# Altium footprint library WR-MM.PcbLib: 120 footprints (part 3 of 8)
Each footprint in its own frame and in the unit in brackets; x right, y up, seen from the top. Pads: shape width x height; smd on the part's side, far side on the other; paste and mask are expansions set on the pad; w line width, h text height; cw(c..) or ccw(c..) is an arc to the next point about the centre after c.
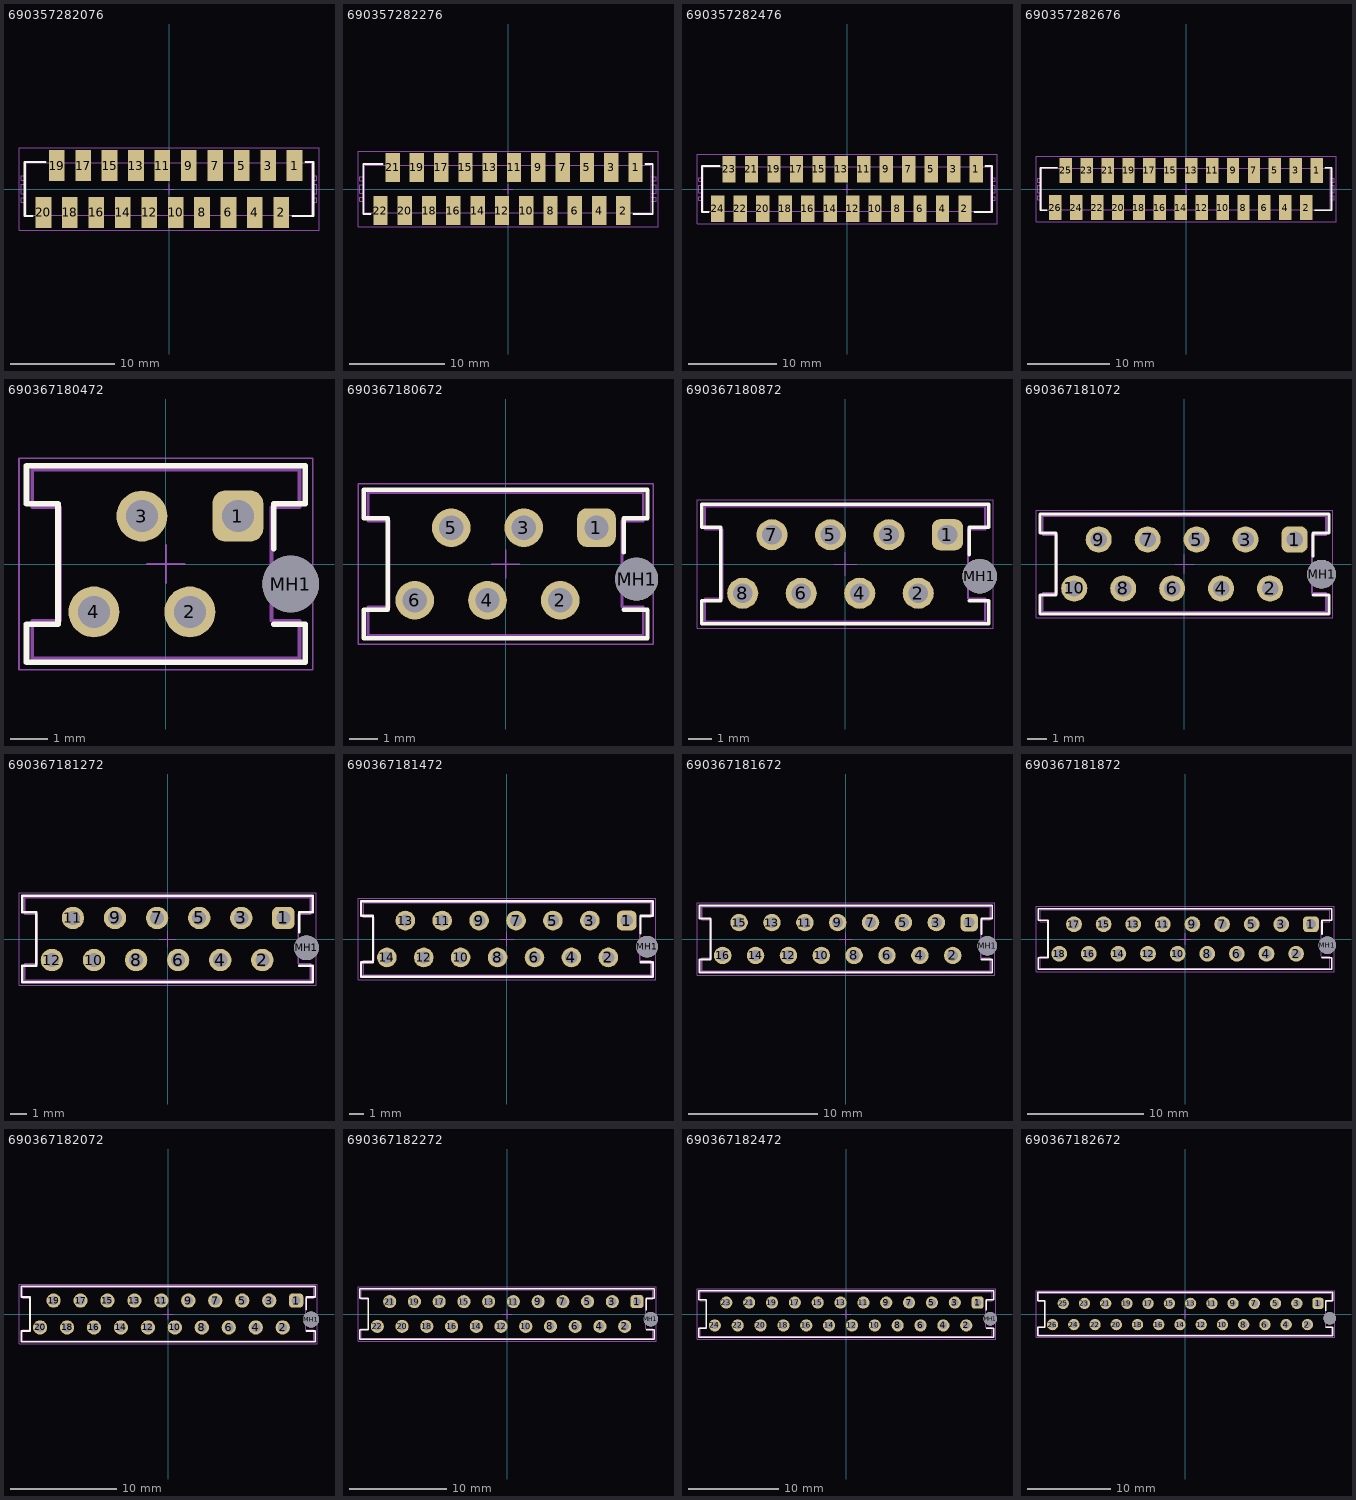
[diagram p2: the footprints below, top view; thin cyan lines are the x and y axes]

## 690357282076 [mm] "MiniModule Connectors, PCB Type, Male, SMT, Vertical, 20p"
height 4.8
pads (20):
  rect 1.5x3 smd: 1(12.065,2.25) 2(10.795,-2.25) 3(9.525,2.25) 4(8.255,-2.25) 5(6.985,2.25) 6(5.715,-2.25) 7(4.445,2.25) 8(3.175,-2.25) 9(1.905,2.25) 10(0.635,-2.25) 11(-0.635,2.25) 12(-1.905,-2.25) 13(-3.175,2.25) 14(-4.445,-2.25) 15(-5.715,2.25) 16(-6.985,-2.25) 17(-8.255,2.25) 18(-9.525,-2.25) 19(-10.795,2.25) 20(-12.065,-2.25)
Top Overlay:
  lines w0.2: -13.11,-2.6 -13.865,-2.6 -13.865,2.6 -11.86,2.6 ; 11.86,-2.6 13.865,-2.6 13.865,2.6 13.11,2.6
Top Designator:
  text ".Designator" at -7.498,-0.5 h1.5
Top Component Outline:
  lines w0.1: -13.715,-1.29 -14.215,-1.29 -14.215,-0.85 -13.715,-0.85 ; -13.715,-0.45 -14.215,-0.45 -14.215,0.45 -13.715,0.45 ; -13.715,0.85 -14.215,0.85 -14.215,1.29 -13.715,1.29 ; -12.315,-2.5 -12.315,-3.25 -11.815,-3.25 -11.815,-2.5 ; -11.045,2.5 -11.045,3.25 -10.545,3.25 -10.545,2.5 ; -9.775,-2.5 -9.775,-3.25 -9.275,-3.25 -9.275,-2.5 ; -8.505,2.5 -8.505,3.25 -8.005,3.25 -8.005,2.5 ; -7.235,-2.5 -7.235,-3.25 -6.735,-3.25 -6.735,-2.5 ; -5.965,2.5 -5.965,3.25 -5.465,3.25 -5.465,2.5 ; -4.695,-2.5 -4.695,-3.25 -4.195,-3.25 -4.195,-2.5 ; -3.425,2.5 -3.425,3.25 -2.925,3.25 -2.925,2.5 ; -2.155,-2.5 -2.155,-3.25 -1.655,-3.25 -1.655,-2.5 ; -0.885,2.5 -0.885,3.25 -0.385,3.25 -0.385,2.5 ; 0.385,-2.5 0.385,-3.25 0.885,-3.25 0.885,-2.5 ; 1.655,2.5 1.655,3.25 2.155,3.25 2.155,2.5 ; 2.925,-2.5 2.925,-3.25 3.425,-3.25 3.425,-2.5 ; 4.195,2.5 4.195,3.25 4.695,3.25 4.695,2.5 ; 5.465,-2.5 5.465,-3.25 5.965,-3.25 5.965,-2.5 ; 6.735,2.5 6.735,3.25 7.235,3.25 7.235,2.5 ; 8.005,-2.5 8.005,-3.25 8.505,-3.25 8.505,-2.5 ; 9.275,2.5 9.275,3.25 9.775,3.25 9.775,2.5 ; 10.545,-2.5 10.545,-3.25 11.045,-3.25 11.045,-2.5 ; 11.815,2.5 11.815,3.25 12.315,3.25 12.315,2.5 ; 13.715,-1.29 14.215,-1.29 14.215,-0.85 13.715,-0.85 ; 13.715,-0.45 14.215,-0.45 14.215,0.45 13.715,0.45 ; 13.715,0.85 14.215,0.85 14.215,1.29 13.715,1.29 ; -13.715,-2.5 13.715,-2.5 ; -13.715,-2.5 13.715,-2.5 ; -13.715,-2.5 -13.715,2.5 13.715,2.5 13.715,-2.5
Top 3D Body:
  lines w0.1: -13.715,-1.29 -14.215,-1.29 -14.215,-0.85 -13.715,-0.85 ; -13.715,-0.45 -14.215,-0.45 -14.215,0.45 -13.715,0.45 ; -13.715,0.85 -14.215,0.85 -14.215,1.29 -13.715,1.29 ; -12.315,-2.5 -12.315,-3.25 -11.815,-3.25 -11.815,-2.5 ; -11.045,2.5 -11.045,3.25 -10.545,3.25 -10.545,2.5 ; -9.775,-2.5 -9.775,-3.25 -9.275,-3.25 -9.275,-2.5 ; -8.505,2.5 -8.505,3.25 -8.005,3.25 -8.005,2.5 ; -7.235,-2.5 -7.235,-3.25 -6.735,-3.25 -6.735,-2.5 ; -5.965,2.5 -5.965,3.25 -5.465,3.25 -5.465,2.5 ; -4.695,-2.5 -4.695,-3.25 -4.195,-3.25 -4.195,-2.5 ; -3.425,2.5 -3.425,3.25 -2.925,3.25 -2.925,2.5 ; -2.155,-2.5 -2.155,-3.25 -1.655,-3.25 -1.655,-2.5 ; -0.885,2.5 -0.885,3.25 -0.385,3.25 -0.385,2.5 ; 0.385,-2.5 0.385,-3.25 0.885,-3.25 0.885,-2.5 ; 1.655,2.5 1.655,3.25 2.155,3.25 2.155,2.5 ; 2.925,-2.5 2.925,-3.25 3.425,-3.25 3.425,-2.5 ; 4.195,2.5 4.195,3.25 4.695,3.25 4.695,2.5 ; 5.465,-2.5 5.465,-3.25 5.965,-3.25 5.965,-2.5 ; 6.735,2.5 6.735,3.25 7.235,3.25 7.235,2.5 ; 8.005,-2.5 8.005,-3.25 8.505,-3.25 8.505,-2.5 ; 9.275,2.5 9.275,3.25 9.775,3.25 9.775,2.5 ; 10.545,-2.5 10.545,-3.25 11.045,-3.25 11.045,-2.5 ; 11.815,2.5 11.815,3.25 12.315,3.25 12.315,2.5 ; 13.715,-1.29 14.215,-1.29 14.215,-0.85 13.715,-0.85 ; 13.715,-0.45 14.215,-0.45 14.215,0.45 13.715,0.45 ; 13.715,0.85 14.215,0.85 14.215,1.29 13.715,1.29 ; -13.715,-2.5 -13.715,2.5 13.715,2.5 13.715,-2.5 ; -13.715,-2.5 13.715,-2.5 ; -13.715,-2.5 13.715,-2.5
Top Courtyard:
  lines w0.05: -0.5,0 0.5,0 ; 0,-0.5 0,0.5 ; -14.415,-3.95 14.415,-3.95 14.415,3.95 -14.415,3.95 -14.415,-3.95
3D body "690357282076.stp": height 5.16, standoff 0.01, extent -14.215,-3.25 14.215,3.25

## 690357282276 [mm] "MiniModule Connectors, PCB Type, Male, SMT, Vertical, 22p"
height 4.8
pads (22):
  rect 1.5x3 smd: 1(13.335,2.25) 2(12.065,-2.25) 3(10.795,2.25) 4(9.525,-2.25) 5(8.255,2.25) 6(6.985,-2.25) 7(5.715,2.25) 8(4.445,-2.25) 9(3.175,2.25) 10(1.905,-2.25) 11(0.635,2.25) 12(-0.635,-2.25) 13(-1.905,2.25) 14(-3.175,-2.25) 15(-4.445,2.25) 16(-5.715,-2.25) 17(-6.985,2.25) 18(-8.255,-2.25) 19(-9.525,2.25) 20(-10.795,-2.25) 21(-12.065,2.25) 22(-13.335,-2.25)
Top Overlay:
  lines w0.2: -14.38,-2.6 -15.135,-2.6 -15.135,2.6 -13.13,2.6 ; 13.13,-2.6 15.135,-2.6 15.135,2.6 14.38,2.6
Top Designator:
  text ".Designator" at -7.498,-0.5 h1.5
Top Component Outline:
  lines w0.1: -14.985,-1.29 -15.485,-1.29 -15.485,-0.85 -14.985,-0.85 ; -14.985,-0.45 -15.485,-0.45 -15.485,0.45 -14.985,0.45 ; -14.985,0.85 -15.485,0.85 -15.485,1.29 -14.985,1.29 ; -13.585,-2.5 -13.585,-3.25 -13.085,-3.25 -13.085,-2.5 ; -12.315,2.5 -12.315,3.25 -11.815,3.25 -11.815,2.5 ; -11.045,-2.5 -11.045,-3.25 -10.545,-3.25 -10.545,-2.5 ; -9.775,2.5 -9.775,3.25 -9.275,3.25 -9.275,2.5 ; -8.505,-2.5 -8.505,-3.25 -8.005,-3.25 -8.005,-2.5 ; -7.235,2.5 -7.235,3.25 -6.735,3.25 -6.735,2.5 ; -5.965,-2.5 -5.965,-3.25 -5.465,-3.25 -5.465,-2.5 ; -4.695,2.5 -4.695,3.25 -4.195,3.25 -4.195,2.5 ; -3.425,-2.5 -3.425,-3.25 -2.925,-3.25 -2.925,-2.5 ; -2.155,2.5 -2.155,3.25 -1.655,3.25 -1.655,2.5 ; -0.885,-2.5 -0.885,-3.25 -0.385,-3.25 -0.385,-2.5 ; 0.385,2.5 0.385,3.25 0.885,3.25 0.885,2.5 ; 1.655,-2.5 1.655,-3.25 2.155,-3.25 2.155,-2.5 ; 2.925,2.5 2.925,3.25 3.425,3.25 3.425,2.5 ; 4.195,-2.5 4.195,-3.25 4.695,-3.25 4.695,-2.5 ; 5.465,2.5 5.465,3.25 5.965,3.25 5.965,2.5 ; 6.735,-2.5 6.735,-3.25 7.235,-3.25 7.235,-2.5 ; 8.005,2.5 8.005,3.25 8.505,3.25 8.505,2.5 ; 9.275,-2.5 9.275,-3.25 9.775,-3.25 9.775,-2.5 ; 10.545,2.5 10.545,3.25 11.045,3.25 11.045,2.5 ; 11.815,-2.5 11.815,-3.25 12.315,-3.25 12.315,-2.5 ; 13.085,2.5 13.085,3.25 13.585,3.25 13.585,2.5 ; 14.985,-1.29 15.485,-1.29 15.485,-0.85 14.985,-0.85 ; 14.985,-0.45 15.485,-0.45 15.485,0.45 14.985,0.45 ; 14.985,0.85 15.485,0.85 15.485,1.29 14.985,1.29 ; -14.985,-2.5 -14.985,2.5 14.985,2.5 14.985,-2.5 ; -14.985,-2.5 14.985,-2.5 ; -14.985,-2.5 14.985,-2.5
Top 3D Body:
  lines w0.1: -14.985,-1.29 -15.485,-1.29 -15.485,-0.85 -14.985,-0.85 ; -14.985,-0.45 -15.485,-0.45 -15.485,0.45 -14.985,0.45 ; -14.985,0.85 -15.485,0.85 -15.485,1.29 -14.985,1.29 ; -13.585,-2.5 -13.585,-3.25 -13.085,-3.25 -13.085,-2.5 ; -12.315,2.5 -12.315,3.25 -11.815,3.25 -11.815,2.5 ; -11.045,-2.5 -11.045,-3.25 -10.545,-3.25 -10.545,-2.5 ; -9.775,2.5 -9.775,3.25 -9.275,3.25 -9.275,2.5 ; -8.505,-2.5 -8.505,-3.25 -8.005,-3.25 -8.005,-2.5 ; -7.235,2.5 -7.235,3.25 -6.735,3.25 -6.735,2.5 ; -5.965,-2.5 -5.965,-3.25 -5.465,-3.25 -5.465,-2.5 ; -4.695,2.5 -4.695,3.25 -4.195,3.25 -4.195,2.5 ; -3.425,-2.5 -3.425,-3.25 -2.925,-3.25 -2.925,-2.5 ; -2.155,2.5 -2.155,3.25 -1.655,3.25 -1.655,2.5 ; -0.885,-2.5 -0.885,-3.25 -0.385,-3.25 -0.385,-2.5 ; 0.385,2.5 0.385,3.25 0.885,3.25 0.885,2.5 ; 1.655,-2.5 1.655,-3.25 2.155,-3.25 2.155,-2.5 ; 2.925,2.5 2.925,3.25 3.425,3.25 3.425,2.5 ; 4.195,-2.5 4.195,-3.25 4.695,-3.25 4.695,-2.5 ; 5.465,2.5 5.465,3.25 5.965,3.25 5.965,2.5 ; 6.735,-2.5 6.735,-3.25 7.235,-3.25 7.235,-2.5 ; 8.005,2.5 8.005,3.25 8.505,3.25 8.505,2.5 ; 9.275,-2.5 9.275,-3.25 9.775,-3.25 9.775,-2.5 ; 10.545,2.5 10.545,3.25 11.045,3.25 11.045,2.5 ; 11.815,-2.5 11.815,-3.25 12.315,-3.25 12.315,-2.5 ; 13.085,2.5 13.085,3.25 13.585,3.25 13.585,2.5 ; 14.985,-1.29 15.485,-1.29 15.485,-0.85 14.985,-0.85 ; 14.985,-0.45 15.485,-0.45 15.485,0.45 14.985,0.45 ; 14.985,0.85 15.485,0.85 15.485,1.29 14.985,1.29 ; -14.985,-2.5 14.985,-2.5 ; -14.985,-2.5 14.985,-2.5 ; -14.985,-2.5 -14.985,2.5 14.985,2.5 14.985,-2.5
Top Courtyard:
  lines w0.05: -0.5,0 0.5,0 ; 0,-0.5 0,0.5 ; -15.685,-3.95 -15.685,3.95 15.685,3.95 15.685,-3.95 -15.685,-3.95
3D body "690357282276.stp": height 5.16, standoff 0.01, extent -15.485,-3.25 15.485,3.25

## 690357282476 [mm] "MiniModule Connectors, PCB Type, Male, SMT, Vertical, 24p"
height 4.8
pads (24):
  rect 1.5x3 smd: 1(14.605,2.25) 2(13.335,-2.25) 3(12.065,2.25) 4(10.795,-2.25) 5(9.525,2.25) 6(8.255,-2.25) 7(6.985,2.25) 8(5.715,-2.25) 9(4.445,2.25) 10(3.175,-2.25) 11(1.905,2.25) 12(0.635,-2.25) 13(-0.635,2.25) 14(-1.905,-2.25) 15(-3.175,2.25) 16(-4.445,-2.25) 17(-5.715,2.25) 18(-6.985,-2.25) 19(-8.255,2.25) 20(-9.525,-2.25) 21(-10.795,2.25) 22(-12.065,-2.25) 23(-13.335,2.25) 24(-14.605,-2.25)
Top Overlay:
  lines w0.2: -15.65,-2.6 -16.405,-2.6 -16.405,2.6 -14.4,2.6 ; 14.4,-2.6 16.405,-2.6 16.405,2.6 15.65,2.6
Top Designator:
  text ".Designator" at -7.498,-0.5 h1.5
Top Component Outline:
  lines w0.1: -16.255,-1.29 -16.755,-1.29 -16.755,-0.85 -16.255,-0.85 ; -16.255,-0.45 -16.755,-0.45 -16.755,0.45 -16.255,0.45 ; -16.255,0.85 -16.755,0.85 -16.755,1.29 -16.255,1.29 ; -14.855,-2.5 -14.855,-3.25 -14.355,-3.25 -14.355,-2.5 ; -13.585,2.5 -13.585,3.25 -13.085,3.25 -13.085,2.5 ; -12.315,-2.5 -12.315,-3.25 -11.815,-3.25 -11.815,-2.5 ; -11.045,2.5 -11.045,3.25 -10.545,3.25 -10.545,2.5 ; -9.775,-2.5 -9.775,-3.25 -9.275,-3.25 -9.275,-2.5 ; -8.505,2.5 -8.505,3.25 -8.005,3.25 -8.005,2.5 ; -7.235,-2.5 -7.235,-3.25 -6.735,-3.25 -6.735,-2.5 ; -5.965,2.5 -5.965,3.25 -5.465,3.25 -5.465,2.5 ; -4.695,-2.5 -4.695,-3.25 -4.195,-3.25 -4.195,-2.5 ; -3.425,2.5 -3.425,3.25 -2.925,3.25 -2.925,2.5 ; -2.155,-2.5 -2.155,-3.25 -1.655,-3.25 -1.655,-2.5 ; -0.885,2.5 -0.885,3.25 -0.385,3.25 -0.385,2.5 ; 0.385,-2.5 0.385,-3.25 0.885,-3.25 0.885,-2.5 ; 1.655,2.5 1.655,3.25 2.155,3.25 2.155,2.5 ; 2.925,-2.5 2.925,-3.25 3.425,-3.25 3.425,-2.5 ; 4.195,2.5 4.195,3.25 4.695,3.25 4.695,2.5 ; 5.465,-2.5 5.465,-3.25 5.965,-3.25 5.965,-2.5 ; 6.735,2.5 6.735,3.25 7.235,3.25 7.235,2.5 ; 8.005,-2.5 8.005,-3.25 8.505,-3.25 8.505,-2.5 ; 9.275,2.5 9.275,3.25 9.775,3.25 9.775,2.5 ; 10.545,-2.5 10.545,-3.25 11.045,-3.25 11.045,-2.5 ; 11.815,2.5 11.815,3.25 12.315,3.25 12.315,2.5 ; 13.085,-2.5 13.085,-3.25 13.585,-3.25 13.585,-2.5 ; 14.355,2.5 14.355,3.25 14.855,3.25 14.855,2.5 ; 16.255,-1.29 16.755,-1.29 16.755,-0.85 16.255,-0.85 ; 16.255,-0.45 16.755,-0.45 16.755,0.45 16.255,0.45 ; 16.255,0.85 16.755,0.85 16.755,1.29 16.255,1.29 ; -16.255,-2.5 -16.255,2.5 16.255,2.5 16.255,-2.5 ; -16.255,-2.5 16.255,-2.5 ; -16.255,-2.5 16.255,-2.5
Top 3D Body:
  lines w0.1: -16.255,-1.29 -16.755,-1.29 -16.755,-0.85 -16.255,-0.85 ; -16.255,-0.45 -16.755,-0.45 -16.755,0.45 -16.255,0.45 ; -16.255,0.85 -16.755,0.85 -16.755,1.29 -16.255,1.29 ; -14.855,-2.5 -14.855,-3.25 -14.355,-3.25 -14.355,-2.5 ; -13.585,2.5 -13.585,3.25 -13.085,3.25 -13.085,2.5 ; -12.315,-2.5 -12.315,-3.25 -11.815,-3.25 -11.815,-2.5 ; -11.045,2.5 -11.045,3.25 -10.545,3.25 -10.545,2.5 ; -9.775,-2.5 -9.775,-3.25 -9.275,-3.25 -9.275,-2.5 ; -8.505,2.5 -8.505,3.25 -8.005,3.25 -8.005,2.5 ; -7.235,-2.5 -7.235,-3.25 -6.735,-3.25 -6.735,-2.5 ; -5.965,2.5 -5.965,3.25 -5.465,3.25 -5.465,2.5 ; -4.695,-2.5 -4.695,-3.25 -4.195,-3.25 -4.195,-2.5 ; -3.425,2.5 -3.425,3.25 -2.925,3.25 -2.925,2.5 ; -2.155,-2.5 -2.155,-3.25 -1.655,-3.25 -1.655,-2.5 ; -0.885,2.5 -0.885,3.25 -0.385,3.25 -0.385,2.5 ; 0.385,-2.5 0.385,-3.25 0.885,-3.25 0.885,-2.5 ; 1.655,2.5 1.655,3.25 2.155,3.25 2.155,2.5 ; 2.925,-2.5 2.925,-3.25 3.425,-3.25 3.425,-2.5 ; 4.195,2.5 4.195,3.25 4.695,3.25 4.695,2.5 ; 5.465,-2.5 5.465,-3.25 5.965,-3.25 5.965,-2.5 ; 6.735,2.5 6.735,3.25 7.235,3.25 7.235,2.5 ; 8.005,-2.5 8.005,-3.25 8.505,-3.25 8.505,-2.5 ; 9.275,2.5 9.275,3.25 9.775,3.25 9.775,2.5 ; 10.545,-2.5 10.545,-3.25 11.045,-3.25 11.045,-2.5 ; 11.815,2.5 11.815,3.25 12.315,3.25 12.315,2.5 ; 13.085,-2.5 13.085,-3.25 13.585,-3.25 13.585,-2.5 ; 14.355,2.5 14.355,3.25 14.855,3.25 14.855,2.5 ; 16.255,-1.29 16.755,-1.29 16.755,-0.85 16.255,-0.85 ; 16.255,-0.45 16.755,-0.45 16.755,0.45 16.255,0.45 ; 16.255,0.85 16.755,0.85 16.755,1.29 16.255,1.29 ; -16.255,-2.5 16.255,-2.5 ; -16.255,-2.5 16.255,-2.5 ; -16.255,-2.5 -16.255,2.5 16.255,2.5 16.255,-2.5
Top Courtyard:
  lines w0.05: -0.5,0 0.5,0 ; 0,-0.5 0,0.5 ; -16.955,-3.95 -16.955,3.95 16.955,3.95 16.955,-3.95 -16.955,-3.95
3D body "690357282476.stp": height 5.16, standoff 0.01, extent -16.755,-3.25 16.755,3.25

## 690357282676 [mm] "MiniModule Connectors, PCB Type, Male, SMT, Vertical, 26p"
height 4.8
pads (26):
  rect 1.5x3 smd: 1(15.875,2.25) 2(14.605,-2.25) 3(13.335,2.25) 4(12.065,-2.25) 5(10.795,2.25) 6(9.525,-2.25) 7(8.255,2.25) 8(6.985,-2.25) 9(5.715,2.25) 10(4.445,-2.25) 11(3.175,2.25) 12(1.905,-2.25) 13(0.635,2.25) 14(-0.635,-2.25) 15(-1.905,2.25) 16(-3.175,-2.25) 17(-4.445,2.25) 18(-5.715,-2.25) 19(-6.985,2.25) 20(-8.255,-2.25) 21(-9.525,2.25) 22(-10.795,-2.25) 23(-12.065,2.25) 24(-13.335,-2.25) 25(-14.605,2.25) 26(-15.875,-2.25)
Top Overlay:
  lines w0.2: -16.92,-2.6 -17.675,-2.6 -17.675,2.6 -15.67,2.6 ; 15.67,-2.6 17.675,-2.6 17.675,2.6 16.92,2.6
Top Designator:
  text ".Designator" at -7.498,-0.5 h1.5
Top Component Outline:
  lines w0.1: -17.525,-1.29 -18.025,-1.29 -18.025,-0.85 -17.525,-0.85 ; -17.525,-0.45 -18.025,-0.45 -18.025,0.45 -17.525,0.45 ; -17.525,0.85 -18.025,0.85 -18.025,1.29 -17.525,1.29 ; -16.125,-2.5 -16.125,-3.25 -15.625,-3.25 -15.625,-2.5 ; -14.855,2.5 -14.855,3.25 -14.355,3.25 -14.355,2.5 ; -13.585,-2.5 -13.585,-3.25 -13.085,-3.25 -13.085,-2.5 ; -12.315,2.5 -12.315,3.25 -11.815,3.25 -11.815,2.5 ; -11.045,-2.5 -11.045,-3.25 -10.545,-3.25 -10.545,-2.5 ; -9.775,2.5 -9.775,3.25 -9.275,3.25 -9.275,2.5 ; -8.505,-2.5 -8.505,-3.25 -8.005,-3.25 -8.005,-2.5 ; -7.235,2.5 -7.235,3.25 -6.735,3.25 -6.735,2.5 ; -5.965,-2.5 -5.965,-3.25 -5.465,-3.25 -5.465,-2.5 ; -4.695,2.5 -4.695,3.25 -4.195,3.25 -4.195,2.5 ; -3.425,-2.5 -3.425,-3.25 -2.925,-3.25 -2.925,-2.5 ; -2.155,2.5 -2.155,3.25 -1.655,3.25 -1.655,2.5 ; -0.885,-2.5 -0.885,-3.25 -0.385,-3.25 -0.385,-2.5 ; 0.385,2.5 0.385,3.25 0.885,3.25 0.885,2.5 ; 1.655,-2.5 1.655,-3.25 2.155,-3.25 2.155,-2.5 ; 2.925,2.5 2.925,3.25 3.425,3.25 3.425,2.5 ; 4.195,-2.5 4.195,-3.25 4.695,-3.25 4.695,-2.5 ; 5.465,2.5 5.465,3.25 5.965,3.25 5.965,2.5 ; 6.735,-2.5 6.735,-3.25 7.235,-3.25 7.235,-2.5 ; 8.005,2.5 8.005,3.25 8.505,3.25 8.505,2.5 ; 9.275,-2.5 9.275,-3.25 9.775,-3.25 9.775,-2.5 ; 10.545,2.5 10.545,3.25 11.045,3.25 11.045,2.5 ; 11.815,-2.5 11.815,-3.25 12.315,-3.25 12.315,-2.5 ; 13.085,2.5 13.085,3.25 13.585,3.25 13.585,2.5 ; 14.355,-2.5 14.355,-3.25 14.855,-3.25 14.855,-2.5 ; 15.625,2.5 15.625,3.25 16.125,3.25 16.125,2.5 ; 17.525,-1.29 18.025,-1.29 18.025,-0.85 17.525,-0.85 ; 17.525,-0.45 18.025,-0.45 18.025,0.45 17.525,0.45 ; 17.525,0.85 18.025,0.85 18.025,1.29 17.525,1.29 ; -17.525,-2.5 -17.525,2.5 17.525,2.5 17.525,-2.5 ; -17.525,-2.5 17.525,-2.5 ; -17.525,-2.5 17.525,-2.5
Top 3D Body:
  lines w0.1: -17.525,-1.29 -18.025,-1.29 -18.025,-0.85 -17.525,-0.85 ; -17.525,-0.45 -18.025,-0.45 -18.025,0.45 -17.525,0.45 ; -17.525,0.85 -18.025,0.85 -18.025,1.29 -17.525,1.29 ; -16.125,-2.5 -16.125,-3.25 -15.625,-3.25 -15.625,-2.5 ; -14.855,2.5 -14.855,3.25 -14.355,3.25 -14.355,2.5 ; -13.585,-2.5 -13.585,-3.25 -13.085,-3.25 -13.085,-2.5 ; -12.315,2.5 -12.315,3.25 -11.815,3.25 -11.815,2.5 ; -11.045,-2.5 -11.045,-3.25 -10.545,-3.25 -10.545,-2.5 ; -9.775,2.5 -9.775,3.25 -9.275,3.25 -9.275,2.5 ; -8.505,-2.5 -8.505,-3.25 -8.005,-3.25 -8.005,-2.5 ; -7.235,2.5 -7.235,3.25 -6.735,3.25 -6.735,2.5 ; -5.965,-2.5 -5.965,-3.25 -5.465,-3.25 -5.465,-2.5 ; -4.695,2.5 -4.695,3.25 -4.195,3.25 -4.195,2.5 ; -3.425,-2.5 -3.425,-3.25 -2.925,-3.25 -2.925,-2.5 ; -2.155,2.5 -2.155,3.25 -1.655,3.25 -1.655,2.5 ; -0.885,-2.5 -0.885,-3.25 -0.385,-3.25 -0.385,-2.5 ; 0.385,2.5 0.385,3.25 0.885,3.25 0.885,2.5 ; 1.655,-2.5 1.655,-3.25 2.155,-3.25 2.155,-2.5 ; 2.925,2.5 2.925,3.25 3.425,3.25 3.425,2.5 ; 4.195,-2.5 4.195,-3.25 4.695,-3.25 4.695,-2.5 ; 5.465,2.5 5.465,3.25 5.965,3.25 5.965,2.5 ; 6.735,-2.5 6.735,-3.25 7.235,-3.25 7.235,-2.5 ; 8.005,2.5 8.005,3.25 8.505,3.25 8.505,2.5 ; 9.275,-2.5 9.275,-3.25 9.775,-3.25 9.775,-2.5 ; 10.545,2.5 10.545,3.25 11.045,3.25 11.045,2.5 ; 11.815,-2.5 11.815,-3.25 12.315,-3.25 12.315,-2.5 ; 13.085,2.5 13.085,3.25 13.585,3.25 13.585,2.5 ; 14.355,-2.5 14.355,-3.25 14.855,-3.25 14.855,-2.5 ; 15.625,2.5 15.625,3.25 16.125,3.25 16.125,2.5 ; 17.525,-1.29 18.025,-1.29 18.025,-0.85 17.525,-0.85 ; 17.525,-0.45 18.025,-0.45 18.025,0.45 17.525,0.45 ; 17.525,0.85 18.025,0.85 18.025,1.29 17.525,1.29 ; -17.525,-2.5 17.525,-2.5 ; -17.525,-2.5 17.525,-2.5 ; -17.525,-2.5 -17.525,2.5 17.525,2.5 17.525,-2.5
Top Courtyard:
  lines w0.05: -0.5,0 0.5,0 ; 0,-0.5 0,0.5 ; -18.225,-3.95 -18.225,3.95 18.225,3.95 18.225,-3.95 -18.225,-3.95
3D body "690357282676.stp": height 5.16, standoff 0.01, extent -18.025,-3.25 18.025,3.25

## 690367180472 [mm] "MiniModule Connectors, PCB Type, Female, THT, Vertical, 4p"
height 4.4
pads (5):
  rrect50% 1.35x1.35 hole 0.85: 1(1.905,1.27)
  round 1.35 hole 0.85: 2(0.635,-1.27) 3(-0.635,1.27) 4(-1.905,-1.27)
  round 1.5 hole 1.5 unplated: MH1(3.305,-0.53)
Top Overlay:
  lines w0.15: 2.855,-1.6 3.69,-1.6 3.69,-2.6 -3.69,-2.6 -3.69,-1.6 -2.855,-1.6 -2.855,1.6 -3.69,1.6 -3.69,2.6 3.69,2.6 3.69,1.6 2.855,1.6 2.855,0.4
Top Designator:
  text ".Designator" at -7.498,-0.5 h1.5
Top Component Outline:
  lines w0.1: -3.54,-2.5 -3.54,-1.5 -2.8,-1.5 -2.8,1.5 -3.54,1.5 -3.54,2.5 3.54,2.5 3.54,1.5 2.8,1.5 2.8,-1.5 3.54,-1.5 3.54,-2.5 -3.54,-2.5
Top 3D Body:
  lines w0.1: -3.54,-2.5 3.54,-2.5 3.54,-1.5 2.8,-1.5 2.8,1.5 3.54,1.5 3.54,2.5 -3.54,2.5 -3.54,1.5 -2.8,1.5 -2.8,-1.5 -3.54,-1.5 -3.54,-2.5
Top Courtyard:
  lines w0.05: -0.5,0 0.5,0 ; 0,-0.5 0,0.5 ; -3.89,-2.8 -3.89,2.8 3.89,2.8 3.89,-2.8 -3.89,-2.8
3D body "690367180472.stp": height 4.25, standoff -2.85, extent -3.54,-2.5 3.54,2.5

## 690367180672 [mm] "MiniModule Connectors, PCB Type, Female, THT, Vertical, 6p"
height 4.4
pads (7):
  rrect50% 1.35x1.35 hole 0.85: 1(3.175,1.27)
  round 1.35 hole 0.85: 2(1.905,-1.27) 3(0.635,1.27) 4(-0.635,-1.27) 5(-1.905,1.27) 6(-3.175,-1.27)
  round 1.5 hole 1.5 unplated: MH1(4.575,-0.53)
Top Overlay:
  lines w0.15: 4.125,-1.6 4.96,-1.6 4.96,-2.6 -4.96,-2.6 -4.96,-1.6 -4.125,-1.6 -4.125,1.6 -4.96,1.6 -4.96,2.6 4.96,2.6 4.96,1.6 4.125,1.6 4.125,0.4
Top Designator:
  text ".Designator" at -7.498,-0.5 h1.5
Top Component Outline:
  lines w0.1: -4.81,-2.5 4.81,-2.5 4.81,-1.5 4.07,-1.5 4.07,1.5 4.81,1.5 4.81,2.5 -4.81,2.5 -4.81,1.5 -4.07,1.5 -4.07,-1.5 -4.81,-1.5 -4.81,-2.5
Top 3D Body:
  lines w0.1: -4.81,-2.5 -4.81,-1.5 -4.07,-1.5 -4.07,1.5 -4.81,1.5 -4.81,2.5 4.81,2.5 4.81,1.5 4.07,1.5 4.07,-1.5 4.81,-1.5 4.81,-2.5 -4.81,-2.5
Top Courtyard:
  lines w0.05: -0.5,0 0.5,0 ; 0,-0.5 0,0.5 ; -5.16,-2.8 5.16,-2.8 5.16,2.8 -5.16,2.8 -5.16,-2.8
3D body "690367180672.stp": height 4.25, standoff -2.85, extent -4.81,-2.5 4.81,2.5

## 690367180872 [mm] "MiniModule Connectors, PCB Type, Female, THT, Vertical, 8p"
height 4.4
pads (9):
  rrect50% 1.35x1.35 hole 0.85: 1(4.445,1.27)
  round 1.35 hole 0.85: 2(3.175,-1.27) 3(1.905,1.27) 4(0.635,-1.27) 5(-0.635,1.27) 6(-1.905,-1.27) 7(-3.175,1.27) 8(-4.445,-1.27)
  round 1.5 hole 1.5 unplated: MH1(5.845,-0.53)
Top Overlay:
  lines w0.15: 5.395,-1.6 6.23,-1.6 6.23,-2.6 -6.23,-2.6 -6.23,-1.6 -5.395,-1.6 -5.395,1.6 -6.23,1.6 -6.23,2.6 6.23,2.6 6.23,1.6 5.395,1.6 5.395,0.4
Top Designator:
  text ".Designator" at -7.498,-0.5 h1.5
Top Component Outline:
  lines w0.1: -6.08,-2.5 6.08,-2.5 6.08,-1.5 5.34,-1.5 5.34,1.5 6.08,1.5 6.08,2.5 -6.08,2.5 -6.08,1.5 -5.34,1.5 -5.34,-1.5 -6.08,-1.5 -6.08,-2.5
Top 3D Body:
  lines w0.1: -6.08,-2.5 -6.08,-1.5 -5.34,-1.5 -5.34,1.5 -6.08,1.5 -6.08,2.5 6.08,2.5 6.08,1.5 5.34,1.5 5.34,-1.5 6.08,-1.5 6.08,-2.5 -6.08,-2.5
Top Courtyard:
  lines w0.05: -0.5,0 0.5,0 ; 0,-0.5 0,0.5 ; -6.43,-2.8 -6.43,2.8 6.43,2.8 6.43,-2.8 -6.43,-2.8
3D body "690367180872.stp": height 4.25, standoff -2.85, extent -6.08,-2.5 6.08,2.5

## 690367181072 [mm] "MiniModule Connectors, PCB Type, Female, THT, Vertical, 10p"
height 4.4
pads (11):
  rrect50% 1.35x1.35 hole 0.85: 1(5.715,1.27)
  round 1.35 hole 0.85: 2(4.445,-1.27) 3(3.175,1.27) 4(1.905,-1.27) 5(0.635,1.27) 6(-0.635,-1.27) 7(-1.905,1.27) 8(-3.175,-1.27) 9(-4.445,1.27) 10(-5.715,-1.27)
  round 1.5 hole 1.5 unplated: MH1(7.115,-0.53)
Top Overlay:
  lines w0.15: 6.665,-1.6 7.5,-1.6 7.5,-2.6 -7.5,-2.6 -7.5,-1.6 -6.665,-1.6 -6.665,1.6 -7.5,1.6 -7.5,2.6 7.5,2.6 7.5,1.6 6.665,1.6 6.665,0.4
Top Designator:
  text ".Designator" at -7.498,-0.5 h1.5
Top Component Outline:
  lines w0.1: -7.35,-2.5 7.35,-2.5 7.35,-1.5 6.61,-1.5 6.61,1.5 7.35,1.5 7.35,2.5 -7.35,2.5 -7.35,1.5 -6.61,1.5 -6.61,-1.5 -7.35,-1.5 -7.35,-2.5
Top 3D Body:
  lines w0.1: -7.35,-2.5 -7.35,-1.5 -6.61,-1.5 -6.61,1.5 -7.35,1.5 -7.35,2.5 7.35,2.5 7.35,1.5 6.61,1.5 6.61,-1.5 7.35,-1.5 7.35,-2.5 -7.35,-2.5
Top Courtyard:
  lines w0.05: -0.5,0 0.5,0 ; 0,-0.5 0,0.5 ; -7.7,-2.8 -7.7,2.8 7.7,2.8 7.7,-2.8 -7.7,-2.8
3D body "690367181072.stp": height 4.25, standoff -2.85, extent -7.352,-2.5 7.352,2.5

## 690367181272 [mm] "MiniModule Connectors, PCB Type, Female, THT, Vertical, 12p"
height 4.4
pads (13):
  rrect50% 1.35x1.35 hole 0.85: 1(6.985,1.27)
  round 1.35 hole 0.85: 2(5.715,-1.27) 3(4.445,1.27) 4(3.175,-1.27) 5(1.905,1.27) 6(0.635,-1.27) 7(-0.635,1.27) 8(-1.905,-1.27) 9(-3.175,1.27) 10(-4.445,-1.27) 11(-5.715,1.27) 12(-6.985,-1.27)
  round 1.5 hole 1.5 unplated: MH1(8.385,-0.53)
Top Overlay:
  lines w0.15: 7.935,-1.6 8.77,-1.6 8.77,-2.6 -8.77,-2.6 -8.77,-1.6 -7.935,-1.6 -7.935,1.6 -8.77,1.6 -8.77,2.6 8.77,2.6 8.77,1.6 7.935,1.6 7.935,0.4
Top Designator:
  text ".Designator" at -7.498,-0.5 h1.5
Top Component Outline:
  lines w0.1: -8.62,-2.5 8.62,-2.5 8.62,-1.5 7.88,-1.5 7.88,1.5 8.62,1.5 8.62,2.5 -8.62,2.5 -8.62,1.5 -7.88,1.5 -7.88,-1.5 -8.62,-1.5 -8.62,-2.5
Top 3D Body:
  lines w0.1: -8.62,-2.5 -8.62,-1.5 -7.88,-1.5 -7.88,1.5 -8.62,1.5 -8.62,2.5 8.62,2.5 8.62,1.5 7.88,1.5 7.88,-1.5 8.62,-1.5 8.62,-2.5 -8.62,-2.5
Top Courtyard:
  lines w0.05: -0.5,0 0.5,0 ; 0,-0.5 0,0.5 ; -8.97,-2.8 -8.97,2.8 8.97,2.8 8.97,-2.8 -8.97,-2.8
3D body "690367181272.stp": height 4.25, standoff -2.85, extent -8.62,-2.5 8.62,2.5

## 690367181472 [mm] "MiniModule Connectors, PCB Type, Female, THT, Vertical, 14p"
height 4.4
pads (15):
  rrect50% 1.35x1.35 hole 0.85: 1(8.255,1.27)
  round 1.35 hole 0.85: 2(6.985,-1.27) 3(5.715,1.27) 4(4.445,-1.27) 5(3.175,1.27) 6(1.905,-1.27) 7(0.635,1.27) 8(-0.635,-1.27) 9(-1.905,1.27) 10(-3.175,-1.27) 11(-4.445,1.27) 12(-5.715,-1.27) 13(-6.985,1.27) 14(-8.255,-1.27)
  round 1.5 hole 1.5 unplated: MH1(9.655,-0.53)
Top Overlay:
  lines w0.15: 9.205,-1.6 10.04,-1.6 10.04,-2.6 -10.04,-2.6 -10.04,-1.6 -9.205,-1.6 -9.205,1.6 -10.04,1.6 -10.04,2.6 10.04,2.6 10.04,1.6 9.205,1.6 9.205,0.4
Top Designator:
  text ".Designator" at -7.498,-0.5 h1.5
Top Component Outline:
  lines w0.1: -9.89,-2.5 -9.89,-1.5 -9.15,-1.5 -9.15,1.5 -9.89,1.5 -9.89,2.5 9.89,2.5 9.89,1.5 9.15,1.5 9.15,-1.5 9.89,-1.5 9.89,-2.5 -9.89,-2.5
Top 3D Body:
  lines w0.1: -9.89,-2.5 9.89,-2.5 9.89,-1.5 9.15,-1.5 9.15,1.5 9.89,1.5 9.89,2.5 -9.89,2.5 -9.89,1.5 -9.15,1.5 -9.15,-1.5 -9.89,-1.5 -9.89,-2.5
Top Courtyard:
  lines w0.05: -0.5,0 0.5,0 ; 0,-0.5 0,0.5 ; -10.24,-2.8 10.24,-2.8 10.24,2.8 -10.24,2.8 -10.24,-2.8
3D body "690367181472.stp": height 4.25, standoff -2.85, extent -9.89,-2.5 9.89,2.5

## 690367181672 [mm] "MiniModule Connectors, PCB Type, Female, THT, Vertical, 16p"
height 4.4
pads (17):
  rrect50% 1.35x1.35 hole 0.85: 1(9.525,1.27)
  round 1.35 hole 0.85: 2(8.255,-1.27) 3(6.985,1.27) 4(5.715,-1.27) 5(4.445,1.27) 6(3.175,-1.27) 7(1.905,1.27) 8(0.635,-1.27) 9(-0.635,1.27) 10(-1.905,-1.27) 11(-3.175,1.27) 12(-4.445,-1.27) 13(-5.715,1.27) 14(-6.985,-1.27) 15(-8.255,1.27) 16(-9.525,-1.27)
  round 1.5 hole 1.5 unplated: MH1(10.925,-0.53)
Top Overlay:
  lines w0.15: 10.475,-1.6 11.31,-1.6 11.31,-2.6 -11.31,-2.6 -11.31,-1.6 -10.475,-1.6 -10.475,1.6 -11.31,1.6 -11.31,2.6 11.31,2.6 11.31,1.6 10.475,1.6 10.475,0.4
Top Designator:
  text ".Designator" at -7.498,-0.5 h1.5
Top Component Outline:
  lines w0.1: -11.16,-2.5 11.16,-2.5 11.16,-1.5 10.42,-1.5 10.42,1.5 11.16,1.5 11.16,2.5 -11.16,2.5 -11.16,1.5 -10.42,1.5 -10.42,-1.5 -11.16,-1.5 -11.16,-2.5
Top 3D Body:
  lines w0.1: -11.16,-2.5 11.16,-2.5 11.16,-1.5 10.42,-1.5 10.42,1.5 11.16,1.5 11.16,2.5 -11.16,2.5 -11.16,1.5 -10.42,1.5 -10.42,-1.5 -11.16,-1.5 -11.16,-2.5
Top Courtyard:
  lines w0.05: -0.5,0 0.5,0 ; 0,-0.5 0,0.5 ; -11.51,-2.8 11.51,-2.8 11.51,2.8 -11.51,2.8 -11.51,-2.8
3D body "690367181672.stp": height 4.25, standoff -2.85, extent -11.16,-2.5 11.16,2.5

## 690367181872 [mm] "MiniModule Connectors, PCB Type, Female, THT, Vertical, 18p"
height 4.4
pads (19):
  rrect50% 1.35x1.35 hole 0.85: 1(10.795,1.27)
  round 1.35 hole 0.85: 2(9.525,-1.27) 3(8.255,1.27) 4(6.985,-1.27) 5(5.715,1.27) 6(4.445,-1.27) 7(3.175,1.27) 8(1.905,-1.27) 9(0.635,1.27) 10(-0.635,-1.27) 11(-1.905,1.27) 12(-3.175,-1.27) 13(-4.445,1.27) 14(-5.715,-1.27) 15(-6.985,1.27) 16(-8.255,-1.27) 17(-9.525,1.27) 18(-10.795,-1.27)
  round 1.5 hole 1.5 unplated: MH1(12.195,-0.53)
Top Overlay:
  lines w0.15: 11.745,-1.6 12.58,-1.6 12.58,-2.6 -12.58,-2.6 -12.58,-1.6 -11.745,-1.6 -11.745,1.6 -12.58,1.6 -12.58,2.6 12.58,2.6 12.58,1.6 11.745,1.6 11.745,0.4
Top Designator:
  text ".Designator" at -7.498,-0.5 h1.5
Top Component Outline:
  lines w0.1: -12.43,-2.5 12.43,-2.5 12.43,-1.5 11.69,-1.5 11.69,1.5 12.43,1.5 12.43,2.5 -12.43,2.5 -12.43,1.5 -11.69,1.5 -11.69,-1.5 -12.43,-1.5 -12.43,-2.5
Top 3D Body:
  lines w0.1: -12.43,-2.5 -12.43,-1.5 -11.69,-1.5 -11.69,1.5 -12.43,1.5 -12.43,2.5 12.43,2.5 12.43,1.5 11.69,1.5 11.69,-1.5 12.43,-1.5 12.43,-2.5 -12.43,-2.5
Top Courtyard:
  lines w0.05: -0.5,0 0.5,0 ; 0,-0.5 0,0.5 ; -12.78,-2.8 -12.78,2.8 12.78,2.8 12.78,-2.8 -12.78,-2.8
3D body "690367181872.stp": height 4.25, standoff -2.85, extent -12.43,-2.5 12.43,2.5

## 690367182072 [mm] "MiniModule Connectors, PCB Type, Female, THT, Vertical, 20p"
height 4.4
pads (21):
  rrect50% 1.35x1.35 hole 0.85: 1(12.065,1.27)
  round 1.35 hole 0.85: 2(10.795,-1.27) 3(9.525,1.27) 4(8.255,-1.27) 5(6.985,1.27) 6(5.715,-1.27) 7(4.445,1.27) 8(3.175,-1.27) 9(1.905,1.27) 10(0.635,-1.27) 11(-0.635,1.27) 12(-1.905,-1.27) 13(-3.175,1.27) 14(-4.445,-1.27) 15(-5.715,1.27) 16(-6.985,-1.27) 17(-8.255,1.27) 18(-9.525,-1.27) 19(-10.795,1.27) 20(-12.065,-1.27)
  round 1.5 hole 1.5 unplated: MH1(13.465,-0.53)
Top Overlay:
  lines w0.15: 13.015,-1.6 13.85,-1.6 13.85,-2.6 -13.85,-2.6 -13.85,-1.6 -13.015,-1.6 -13.015,1.6 -13.85,1.6 -13.85,2.6 13.85,2.6 13.85,1.6 13.015,1.6 13.015,0.4
Top Designator:
  text ".Designator" at -7.498,-0.5 h1.5
Top Component Outline:
  lines w0.1: -13.7,-2.5 13.7,-2.5 13.7,-1.5 12.96,-1.5 12.96,1.5 13.7,1.5 13.7,2.5 -13.7,2.5 -13.7,1.5 -12.96,1.5 -12.96,-1.5 -13.7,-1.5 -13.7,-2.5
Top 3D Body:
  lines w0.1: -13.7,-2.5 -13.7,-1.5 -12.96,-1.5 -12.96,1.5 -13.7,1.5 -13.7,2.5 13.7,2.5 13.7,1.5 12.96,1.5 12.96,-1.5 13.7,-1.5 13.7,-2.5 -13.7,-2.5
Top Courtyard:
  lines w0.05: -0.5,0 0.5,0 ; 0,-0.5 0,0.5 ; -14.05,-2.8 -14.05,2.8 14.05,2.8 14.05,-2.8 -14.05,-2.8
3D body "690367182072.stp": height 4.25, standoff -2.85, extent -13.7,-2.5 13.7,2.5

## 690367182272 [mm] "MiniModule Connectors, PCB Type, Female, THT, Vertical, 22p"
height 4.4
pads (23):
  rrect50% 1.35x1.35 hole 0.85: 1(13.335,1.27)
  round 1.35 hole 0.85: 2(12.065,-1.27) 3(10.795,1.27) 4(9.525,-1.27) 5(8.255,1.27) 6(6.985,-1.27) 7(5.715,1.27) 8(4.445,-1.27) 9(3.175,1.27) 10(1.905,-1.27) 11(0.635,1.27) 12(-0.635,-1.27) 13(-1.905,1.27) 14(-3.175,-1.27) 15(-4.445,1.27) 16(-5.715,-1.27) 17(-6.985,1.27) 18(-8.255,-1.27) 19(-9.525,1.27) 20(-10.795,-1.27) 21(-12.065,1.27) 22(-13.335,-1.27)
  round 1.5 hole 1.5 unplated: MH1(14.735,-0.53)
Top Overlay:
  lines w0.15: 14.285,-1.6 15.12,-1.6 15.12,-2.6 -15.12,-2.6 -15.12,-1.6 -14.285,-1.6 -14.285,1.6 -15.12,1.6 -15.12,2.6 15.12,2.6 15.12,1.6 14.285,1.6 14.285,0.4
Top Designator:
  text ".Designator" at -7.498,-0.5 h1.5
Top Component Outline:
  lines w0.1: -14.97,-2.5 14.97,-2.5 14.97,-1.5 14.23,-1.5 14.23,1.5 14.97,1.5 14.97,2.5 -14.97,2.5 -14.97,1.5 -14.23,1.5 -14.23,-1.5 -14.97,-1.5 -14.97,-2.5
Top 3D Body:
  lines w0.1: -14.97,-2.5 14.97,-2.5 14.97,-1.5 14.23,-1.5 14.23,1.5 14.97,1.5 14.97,2.5 -14.97,2.5 -14.97,1.5 -14.23,1.5 -14.23,-1.5 -14.97,-1.5 -14.97,-2.5
Top Courtyard:
  lines w0.05: -0.5,0 0.5,0 ; 0,-0.5 0,0.5 ; -15.32,-2.8 15.32,-2.8 15.32,2.8 -15.32,2.8 -15.32,-2.8
3D body "690367182272.stp": height 4.25, standoff -2.85, extent -14.97,-2.5 14.97,2.5

## 690367182472 [mm] "MiniModule Connectors, PCB Type, Female, THT, Vertical, 24p"
height 4.4
pads (25):
  rrect50% 1.35x1.35 hole 0.85: 1(14.605,1.27)
  round 1.35 hole 0.85: 2(13.335,-1.27) 3(12.065,1.27) 4(10.795,-1.27) 5(9.525,1.27) 6(8.255,-1.27) 7(6.985,1.27) 8(5.715,-1.27) 9(4.445,1.27) 10(3.175,-1.27) 11(1.905,1.27) 12(0.635,-1.27) 13(-0.635,1.27) 14(-1.905,-1.27) 15(-3.175,1.27) 16(-4.445,-1.27) 17(-5.715,1.27) 18(-6.985,-1.27) 19(-8.255,1.27) 20(-9.525,-1.27) 21(-10.795,1.27) 22(-12.065,-1.27) 23(-13.335,1.27) 24(-14.605,-1.27)
  round 1.5 hole 1.5 unplated: MH1(16.005,-0.53)
Top Overlay:
  lines w0.15: 15.555,-1.6 16.39,-1.6 16.39,-2.6 -16.39,-2.6 -16.39,-1.6 -15.555,-1.6 -15.555,1.6 -16.39,1.6 -16.39,2.6 16.39,2.6 16.39,1.6 15.555,1.6 15.555,0.4
Top Designator:
  text ".Designator" at -7.498,-0.5 h1.5
Top Component Outline:
  lines w0.1: -16.24,-2.5 16.24,-2.5 16.24,-1.5 15.5,-1.5 15.5,1.5 16.24,1.5 16.24,2.5 -16.24,2.5 -16.24,1.5 -15.5,1.5 -15.5,-1.5 -16.24,-1.5 -16.24,-2.5
Top 3D Body:
  lines w0.1: -16.24,-2.5 16.24,-2.5 16.24,-1.5 15.5,-1.5 15.5,1.5 16.24,1.5 16.24,2.5 -16.24,2.5 -16.24,1.5 -15.5,1.5 -15.5,-1.5 -16.24,-1.5 -16.24,-2.5
Top Courtyard:
  lines w0.05: -0.5,0 0.5,0 ; 0,-0.5 0,0.5 ; -16.59,-2.8 -16.59,2.8 16.59,2.8 16.59,-2.8 -16.59,-2.8
3D body "690367182472.stp": height 4.25, standoff -2.85, extent -16.24,-2.5 16.24,2.5

## 690367182672 [mm] "MiniModule Connectors, PCB Type, Female, THT, Vertical, 26p"
height 4.4
pads (27):
  rrect50% 1.35x1.35 hole 0.85: 1(15.875,1.27)
  round 1.35 hole 0.85: 2(14.605,-1.27) 3(13.335,1.27) 4(12.065,-1.27) 5(10.795,1.27) 6(9.525,-1.27) 7(8.255,1.27) 8(6.985,-1.27) 9(5.715,1.27) 10(4.445,-1.27) 11(3.175,1.27) 12(1.905,-1.27) 13(0.635,1.27) 14(-0.635,-1.27) 15(-1.905,1.27) 16(-3.175,-1.27) 17(-4.445,1.27) 18(-5.715,-1.27) 19(-6.985,1.27) 20(-8.255,-1.27) 21(-9.525,1.27) 22(-10.795,-1.27) 23(-12.065,1.27) 24(-13.335,-1.27) 25(-14.605,1.27) 26(-15.875,-1.27)
  round 1.5 hole 1.5 unplated: MH1(17.275,-0.53)
Top Overlay:
  lines w0.15: 16.825,-1.6 17.66,-1.6 17.66,-2.6 -17.66,-2.6 -17.66,-1.6 -16.825,-1.6 -16.825,1.6 -17.66,1.6 -17.66,2.6 17.66,2.6 17.66,1.6 16.825,1.6 16.825,0.4
Top Designator:
  text ".Designator" at -7.498,-0.5 h1.5
Top Component Outline:
  lines w0.1: -17.51,-2.5 -17.51,-1.5 -16.77,-1.5 -16.77,1.5 -17.51,1.5 -17.51,2.5 17.51,2.5 17.51,1.5 16.77,1.5 16.77,-1.5 17.51,-1.5 17.51,-2.5 -17.51,-2.5
Top 3D Body:
  lines w0.1: -17.51,-2.5 17.51,-2.5 17.51,-1.5 16.77,-1.5 16.77,1.5 17.51,1.5 17.51,2.5 -17.51,2.5 -17.51,1.5 -16.77,1.5 -16.77,-1.5 -17.51,-1.5 -17.51,-2.5
Top Courtyard:
  lines w0.05: -0.5,0 0.5,0 ; 0,-0.5 0,0.5 ; -17.86,-2.8 17.86,-2.8 17.86,2.8 -17.86,2.8 -17.86,-2.8
3D body "690367182672.stp": height 4.25, standoff -2.85, extent -17.51,-2.5 17.51,2.5